# EAGLE library part ESP-12-E (library esp12e)
ESP-12-E Wifi Module
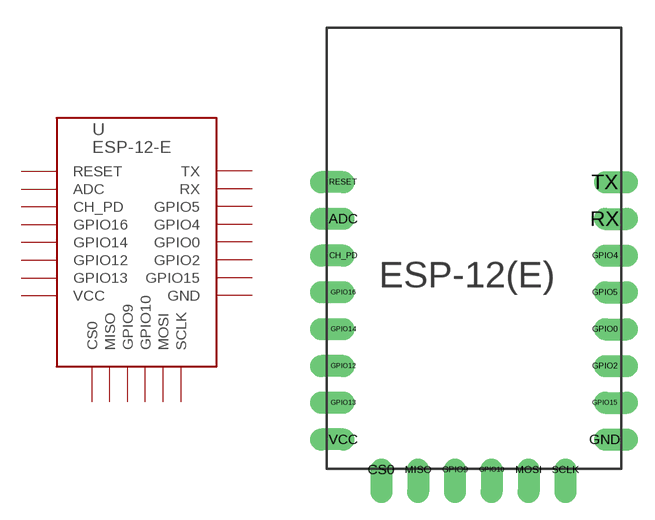
[diagram p0: symbol with the pads of ESP-12-E; footprint ESP-12-E]

Designator prefix -

## ESP-12-E (DIMENSIONS: 24.0 x 16.0 mm; PINS: 22; PITCH: 0.078" / 2 mm)  [ESP-12-E]
ADC  ADC
CH_PD  CH_PD
CS0  CS0
GND  GND
GPIO0  GPIO0
GPIO2  GPIO2
GPIO4  GPIO4
GPIO5  GPIO5
GPIO9  GPIO9
GPIO10  GPIO10
GPIO12  GPIO12
GPIO13  GPIO13
GPIO14  GPIO14
GPIO15  GPIO15
GPIO16  GPIO16
MISO  MISO
MOSI  MOSI
RESET  RESET
RX  RX
SCLK  SCLK
TX  TX
VCC  VCC

## Footprint ESP-12-E (pad centres in mm)
ESP-12-E Module
drill 0.7 offset: ADC 0.9,13.6; CH_PD 0.9,11.6; CS0 2.96,-0.038; GND 15.1,1.6; GPIO0 15.1,7.6; GPIO2 15.1,5.6; GPIO4 15.1,11.6; GPIO5 15.1,9.6; GPIO9 6.96,-0.038; GPIO10 8.96,-0.038; GPIO12 0.9,5.6; GPIO13 0.9,3.6; GPIO14 0.9,7.6; GPIO15 15.1,3.6; GPIO16 0.9,9.6; MISO 4.96,-0.038; MOSI 10.96,-0.038; RESET 0.9,15.6; RX 15.1,13.6; SCLK 12.96,-0.038; TX 15.1,15.6; VCC 0.9,1.6